# EAGLE library part 74374 (library dooba)
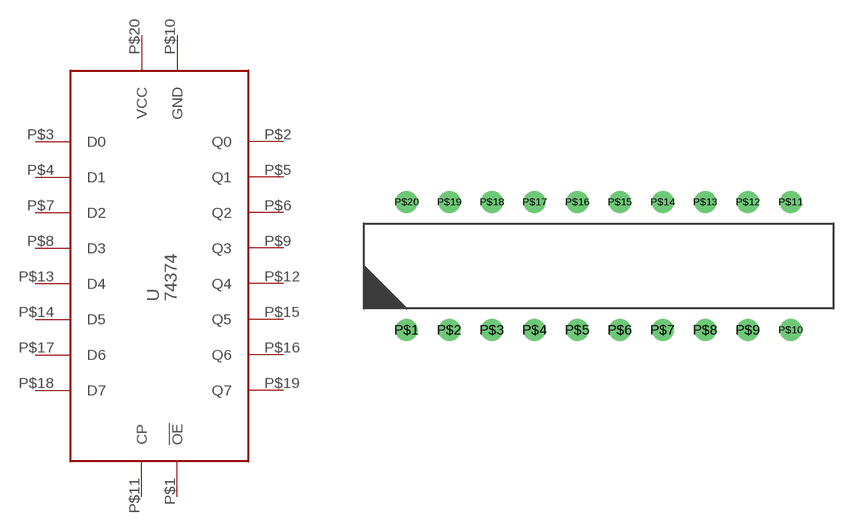
[diagram p60: symbol with the pads of PDIP20; footprint PDIP20]

Designator prefix U

## 74374PDIP  [PDIP20]
P$1  !OE
P$2  Q0
P$3  D0
P$4  D1
P$5  Q1
P$6  Q2
P$7  D2
P$8  D3
P$9  Q3
P$10  GND
P$11  CP
P$12  Q4
P$13  D4
P$14  D5
P$15  Q5
P$16  Q6
P$17  D6
P$18  D7
P$19  Q7
P$20  VCC

## Footprint PDIP20 (pad centres in mm)
drill 0.8: P$1 -11.43,-3.81; P$2 -8.89,-3.81; P$3 -6.35,-3.81; P$4 -3.81,-3.81; P$5 -1.27,-3.81; P$6 1.27,-3.81; P$7 3.81,-3.81; P$8 6.35,-3.81; P$9 8.89,-3.81; P$10 11.43,-3.81; P$11 11.43,3.81; P$12 8.89,3.81; P$13 6.35,3.81; P$14 3.81,3.81; P$15 1.27,3.81; P$16 -1.27,3.81; P$17 -3.81,3.81; P$18 -6.35,3.81; P$19 -8.89,3.81; P$20 -11.43,3.81